# Altium footprint library KP303.PcbLib: 2 footprints
Each footprint in its own frame and in the unit in brackets; x right, y up, seen from the top. Pads: shape width x height; smd on the part's side, far side on the other; paste and mask are expansions set on the pad; w line width, h text height; cw(c..) or ccw(c..) is an arc to the next point about the centre after c.
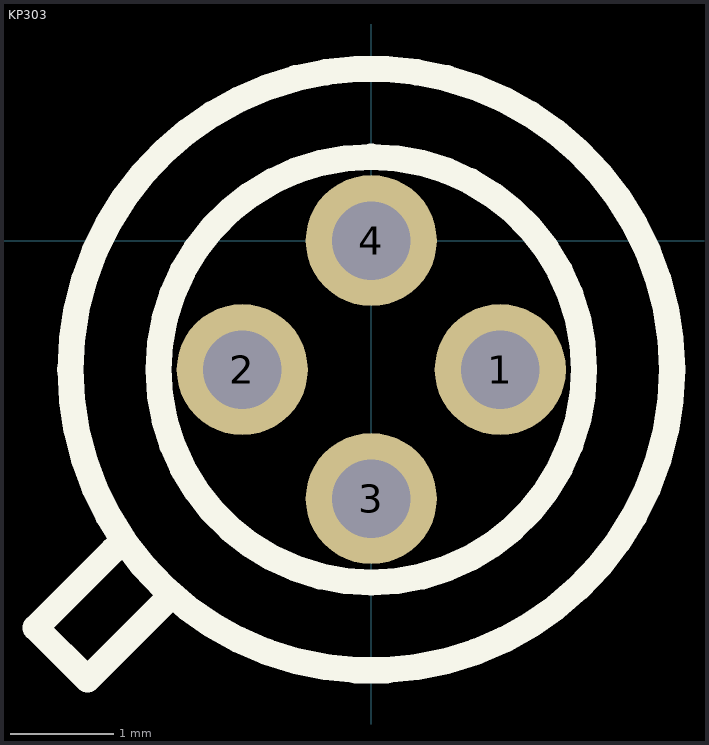
[diagram p0: the footprints below, top view; thin cyan lines are the x and y axes]

## KP303 [mm]
pads (4):
  round 1.27 hole 0.762: 1(1.25,-1.25) 2(-1.25,-1.25) 3(0,-2.5) 4(0,0)
Top Overlay:
  circle w0.254: c0,-1.25 r2.062
  circle w0.254: c0,-1.25 r2.915
  lines w0.254: -2.5,-3 -3.25,-3.75 ; -1.972,-3.472 -2.75,-4.25 -3.25,-3.75 ; -3.25,-3.75 -3.25,-3.75
3D body "User_Library-KT-112.step": height 5.3, standoff -5, extent -3.125,-4.375 2.92,1.67

## PCBComponent_1 [mil]